# Altium schematic symbol library HCPL4504.SchLib: 1 symbol
Pins are listed as number, name and electrical type; pins without a type are passive.

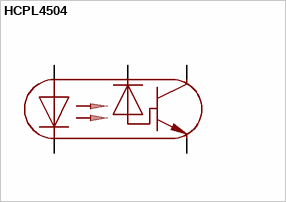
[diagram p0: symbol HCPL4504]

## HCPL4504
designator VD?
footprint DIP8
pins: 2, 3, 5, 6, 8